# Altium footprint library TO-220(bend1).PcbLib: 1 footprints
Each footprint in its own frame and in the unit in brackets; x right, y up, seen from the top. Pads: shape width x height; smd on the part's side, far side on the other; paste and mask are expansions set on the pad; w line width, h text height; cw(c..) or ccw(c..) is an arc to the next point about the centre after c.
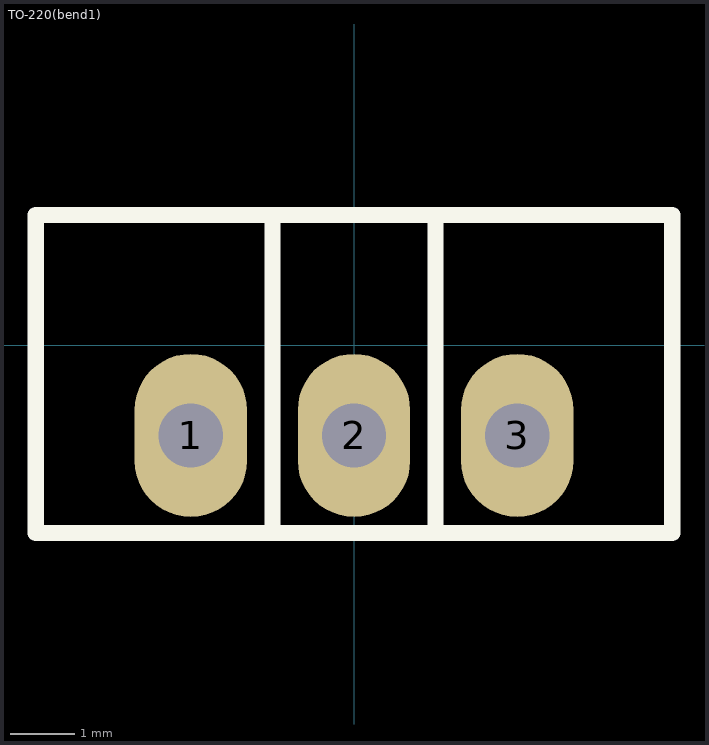
[diagram p0: the footprint, top view; thin cyan lines are the x and y axes]

## TO-220(bend1) [mm]
pads (3):
  oval 1.75x2.54 hole 1: 1(-2.54,-1.4) 2(0,-1.4) 3(2.54,-1.4)
Top Overlay:
  lines w0.254: -1.27,-2.921 -1.27,1.905 ; 1.27,-2.921 1.27,2.032 ; -4.953,-2.921 4.953,-2.921 4.953,2.032 -4.953,2.032 -4.953,-2.921
Bottom Overlay:
  rectangle: -4.953,-2.921 4.953,0.381
  lines w0.254: -4.953,-2.921 4.953,-2.921 4.953,0.381 -4.953,0.381 -4.953,-2.921
3D body "TO220 (bend).STEP": height 22.68, standoff -1.05, extent -4.985,-2.187 4.985,2.686